# Altium footprint library KK5045-05AG.PcbLib: 1 footprints
Each footprint in its own frame and in the unit in brackets; x right, y up, seen from the top. Pads: shape width x height; smd on the part's side, far side on the other; paste and mask are expansions set on the pad; w line width, h text height; cw(c..) or ccw(c..) is an arc to the next point about the centre after c.
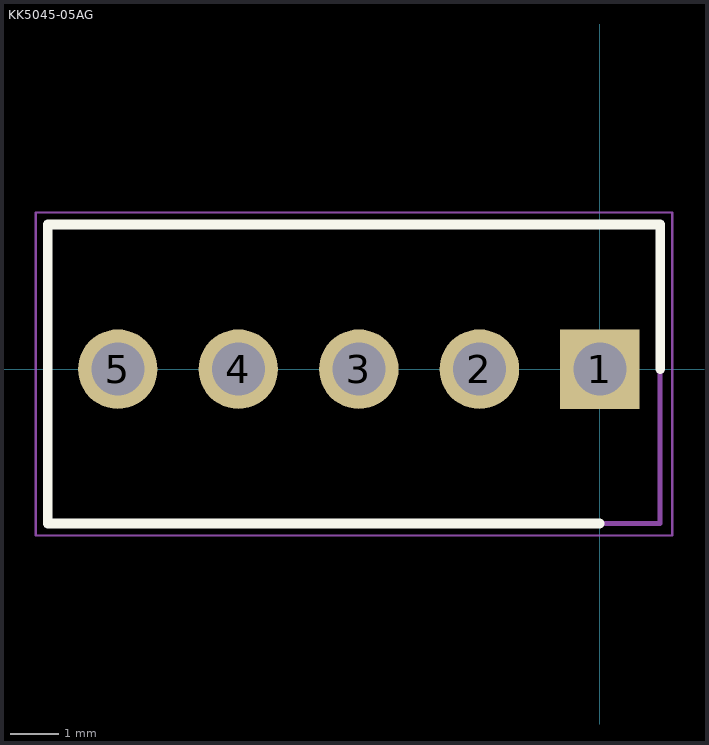
[diagram p0: the footprint, top view; thin cyan lines are the x and y axes]

## KK5045-05AG [mm]
pads (5):
  rect 1.65x1.65 / inner round 1.65 / far side rect 1.65x1.65 hole 1.1: 1(0,0)
  round 1.65 hole 1.1: 2(-2.5,0) 3(-5,0) 4(-7.5,0) 5(-10,0)
Top Overlay:
  lines w0.2: 0,-3.2 -11.45,-3.2 -11.45,3 1.25,3 1.25,0
Mechanical 15:
  lines w0.1: -11.45,-3.2 -11.45,3 1.25,3 1.25,-3.2 -11.45,-3.2
Mechanical 20:
  lines w0.05: -11.7,-3.45 -11.7,3.25 1.5,3.25 1.5,-3.45 -11.7,-3.45
3D body "22-11-1051.stp": height 11.75, standoff -3.35, extent -11,-3.2 1,2.6